# Altium schematic symbol library ADS8910B.SchLib: 1 symbol
Pins are listed as number, name and electrical type; pins without a type are passive.

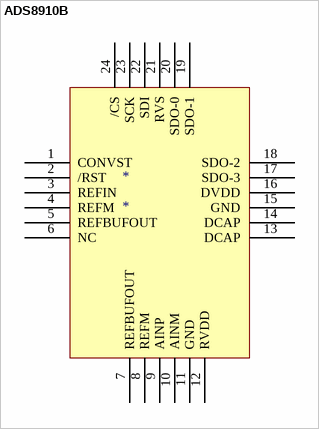
[diagram p0: symbol ADS8910B]

## ADS8910B
designator *
footprint *QFN50P400X400X100-25N
pins: 1 CONVST, 2 /RST, 3 REFIN, 4 REFM, 5 REFBUFOUT, 6 NC, 7 REFBUFOUT, 8 REFM, 9 AINP, 10 AINM, 11 GND, 12 RVDD, 13 DCAP, 14 DCAP, 15 GND, 16 DVDD, 17 SDO-3, 18 SDO-2, 19 SDO-1, 20 SDO-0, 21 RVS, 22 SDI, 23 SCK, 24 /CS